# Altium footprint library 51kOhm 0603 RES.PcbLib: 3 footprints
Each footprint in its own frame and in the unit in brackets; x right, y up, seen from the top. Pads: shape width x height; smd on the part's side, far side on the other; paste and mask are expansions set on the pad; w line width, h text height; cw(c..) or ccw(c..) is an arc to the next point about the centre after c.
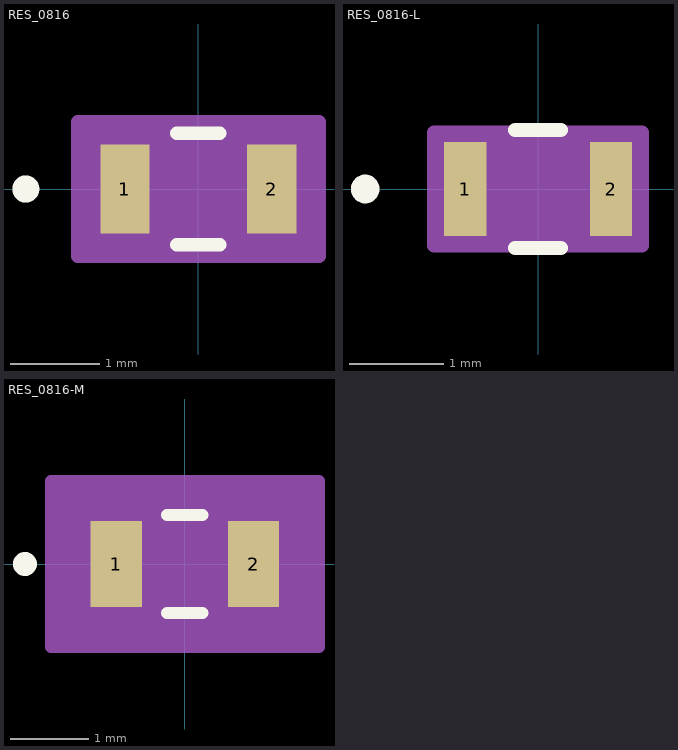
[diagram p0: the footprints below, top view; thin cyan lines are the x and y axes]

## RES_0816 [mm]
pads (2):
  rect 0.553x1 smd paste+0 mask+0: 1(-0.827,0) 2(0.827,0)
Top Overlay:
  circle w0.152: c-1.941,0 r0.076
  lines w0.152: -0.242,-0.627 0.242,-0.627 ; -0.242,0.627 0.242,0.627
Mechanical 13:
  circle w0: c-0.7,0 r0.076
  lines w0.025: -0.9,-0.5 -0.9,0.5 ; -0.9,-0.5 -0.55,-0.5 -0.55,0.5 -0.9,0.5 ; -0.9,-0.5 0.9,-0.5 ; -0.9,-0.5 -0.9,0.5 ; -0.9,0.5 0.9,0.5 ; 0.9,-0.5 0.55,-0.5 0.55,0.5 0.9,0.5 ; 0.9,-0.5 0.9,0.5 ; 0.9,-0.5 0.9,0.5
Mechanical 15:
  region: 1.357,-0.754 -1.357,-0.754 -1.357,0.754 1.357,0.754
  lines w0.152: -1.357,-0.754 -1.357,0.754 1.357,0.754 1.357,-0.754 -1.357,-0.754
3D body: height 0.25, standoff 0, extent 0,0 0.254,0.254

## RES_0816-L [mm]
pads (2):
  rect 0.452x1 smd paste+0 mask+0: 1(-0.776,0) 2(0.776,0)
Top Overlay:
  circle w0.152: c-1.84,0 r0.076
  lines w0.152: -0.242,-0.627 0.242,-0.627 ; -0.242,0.627 0.242,0.627
Mechanical 13:
  circle w0: c-0.649,0 r0.076
  lines w0.025: -0.9,-0.5 -0.9,0.5 ; -0.9,-0.5 -0.55,-0.5 -0.55,0.5 -0.9,0.5 ; -0.9,-0.5 0.9,-0.5 ; -0.9,-0.5 -0.9,0.5 ; -0.9,0.5 0.9,0.5 ; 0.9,-0.5 0.55,-0.5 0.55,0.5 0.9,0.5 ; 0.9,-0.5 0.9,0.5 ; 0.9,-0.5 0.9,0.5
Mechanical 15:
  region: 1.103,-0.602 -1.103,-0.602 -1.103,0.602 1.103,0.602
  lines w0.152: -1.103,-0.602 -1.103,0.602 1.103,0.602 1.103,-0.602 -1.103,-0.602
3D body: height 0.25, standoff 0, extent 0,0 0.254,0.254

## RES_0816-M [mm]
pads (2):
  rect 0.655x1.102 smd paste+0 mask+0: 1(-0.877,0) 2(0.877,0)
Top Overlay:
  circle w0.152: c-2.043,0 r0.076
  lines w0.152: -0.226,-0.627 0.226,-0.627 ; -0.226,0.627 0.226,0.627
Mechanical 13:
  circle w0: c-0.75,0 r0.076
  lines w0.025: -0.9,-0.5 -0.9,0.5 ; -0.9,-0.5 -0.55,-0.5 -0.55,0.5 -0.9,0.5 ; -0.9,-0.5 0.9,-0.5 ; -0.9,-0.5 -0.9,0.5 ; -0.9,0.5 0.9,0.5 ; 0.9,-0.5 0.55,-0.5 0.55,0.5 0.9,0.5 ; 0.9,-0.5 0.9,0.5 ; 0.9,-0.5 0.9,0.5
Mechanical 15:
  region: 1.713,-1.059 -1.713,-1.059 -1.713,1.059 1.713,1.059
  lines w0.152: -1.713,-1.059 -1.713,1.059 1.713,1.059 1.713,-1.059 -1.713,-1.059
3D body: height 0.25, standoff 0, extent 0,0 0.254,0.254